# EAGLE library part PIC16F883T-I_SS (library PIC16F883T-I_SS)
MICROCHIP - PIC16F883T-I/SS - MCU, 8BIT, PIC16, 20MHZ, SSOP-28 Source: Datasheet <https://componentsearchengine.com/Datasheets/1/PIC16F883T-I_SS.pdf>
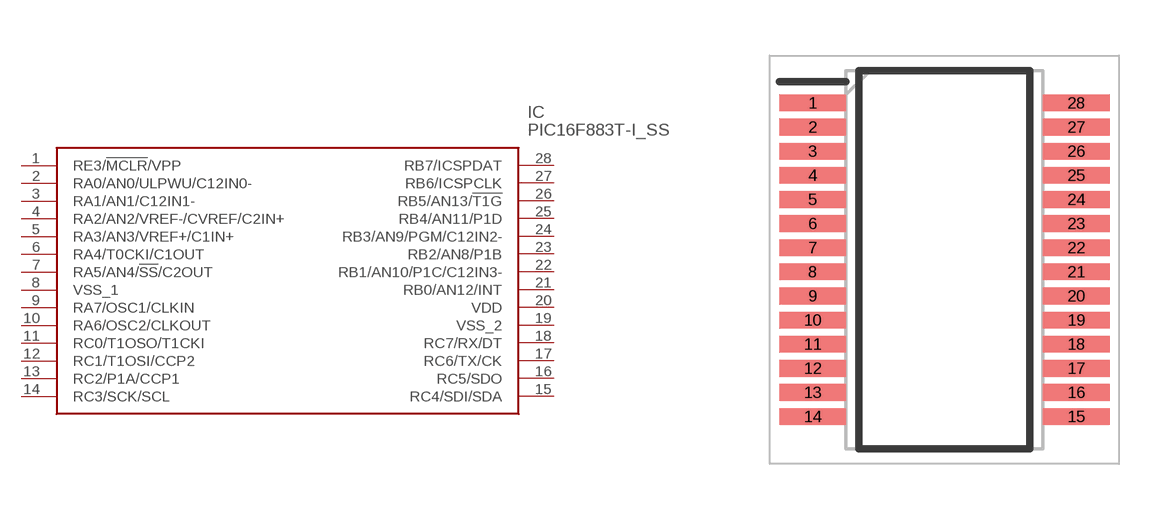
[diagram p0: symbol with the pads of SOP65P780X200-28N; footprint SOP65P780X200-28N]

Designator prefix IC

## PIC16F883T-I_SS (Description: MICROCHIP - PIC16F883T-I/SS - MCU, 8BIT, PIC16, 20MHZ, SSOP-28; Height: 2mm; Manufacturer_Name: Microchip; Manufacturer_Part_Number: PIC16F883T-I/SS; Mouser_Part_Number: 579-PIC16F883T-I/SS; Mouser_Price-Stock: https://www.mouser.co.uk/ProductDetail/Microchip-Technology/PIC16F883T-I-SS?qs=tfKlksTaHW%252BAqvg4XmWtpA%3D%3D)  [SOP65P780X200-28N]
1  RE3/!MCLR!/VPP
2  RA0/AN0/ULPWU/C12IN0-
3  RA1/AN1/C12IN1-
4  RA2/AN2/VREF-/CVREF/C2IN+
5  RA3/AN3/VREF+/C1IN+
6  RA4/T0CKI/C1OUT
7  RA5/AN4/!SS!/C2OUT
8  VSS_1
9  RA7/OSC1/CLKIN
10  RA6/OSC2/CLKOUT
11  RC0/T1OSO/T1CKI
12  RC1/T1OSI/CCP2
13  RC2/P1A/CCP1
14  RC3/SCK/SCL
15  RC4/SDI/SDA
16  RC5/SDO
17  RC6/TX/CK
18  RC7/RX/DT
19  VSS_2
20  VDD
21  RB0/AN12/INT
22  RB1/AN10/P1C/C12IN3-
23  RB2/AN8/P1B
24  RB3/AN9/PGM/C12IN2-
25  RB4/AN11/P1D
26  RB5/AN13/!T1G
27  RB6/ICSPCLK
28  RB7/ICSPDAT

## Footprint SOP65P780X200-28N (pad centres in mm)
28-Lead Plastic Shrink Small Outline (SS) - 5.30 mm Body [SSOP]
smd 1.8 x 0.45: 1 -3.55,4.225; 2 -3.55,3.575; 3 -3.55,2.925; 4 -3.55,2.275; 5 -3.55,1.625; 6 -3.55,0.975; 7 -3.55,0.325; 8 -3.55,-0.325; 9 -3.55,-0.975; 10 -3.55,-1.625; 11 -3.55,-2.275; 12 -3.55,-2.925; 13 -3.55,-3.575; 14 -3.55,-4.225; 15 3.55,-4.225; 16 3.55,-3.575; 17 3.55,-2.925; 18 3.55,-2.275; 19 3.55,-1.625; 20 3.55,-0.975; 21 3.55,-0.325; 22 3.55,0.325; 23 3.55,0.975; 24 3.55,1.625; 25 3.55,2.275; 26 3.55,2.925; 27 3.55,3.575; 28 3.55,4.225